# Altium schematic symbol library SCH - POWER - LINEAR VREG - TI TPS7A6601-Q1DGN.SchLib: 1 symbol
Pins are listed as number, name and electrical type; pins without a type are passive.

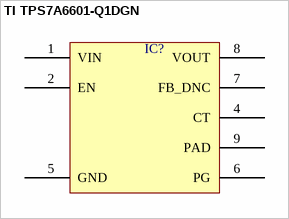
[diagram p0: symbol TI TPS7A6601-Q1DGN]

## TI TPS7A6601-Q1DGN
designator IC?  (value not drawn)
pins: 1 VIN, 2 EN, 4 CT, 5 GND, 6 PG, 7 FB_DNC, 8 VOUT, 9 PAD